# EAGLE library part FT230X (library kmod-ics)
FTDI USB-UART bridge
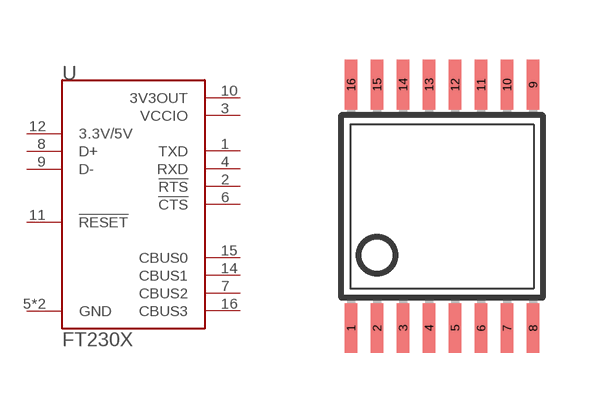
[diagram p11: symbol with the pads of TSSOP16; footprint TSSOP16]

Designator prefix -

## FT230X  [TSSOP16]
1  TXD
2  !RTS
3  VCCIO
4  RXD
5  GND
6  !CTS
7  CBUS2
8  D+
9  D-
10  3V3OUT
11  !RESET
12  3.3V/5V
13  GND
14  CBUS1
15  CBUS0
16  CBUS3

## Footprint TSSOP16 (pad centres in mm)
Thin Shrink Small Outline Plastic 16, 4.40mm width Forget where I copied it from. Same thoughts as the TSSOP-14: works well but maybe could lengthen the pads. - ok made them longer by 10mil (0.25mm); they now stick past the end by about 0.5mm
smd 0.305 x 1.245: 1 -2.275,-3.045; 2 -1.625,-3.045; 3 -0.975,-3.045; 4 -0.325,-3.045; 5 0.325,-3.045; 6 0.975,-3.045; 7 1.625,-3.045; 8 2.275,-3.045; 9 2.275,3.045; 10 1.625,3.045; 11 0.975,3.045; 12 0.325,3.045; 13 -0.325,3.045; 14 -0.975,3.045; 15 -1.625,3.045; 16 -2.275,3.045